# Altium footprint library MCP100T-300ITT.PcbLib: 3 footprints
Each footprint in its own frame and in the unit in brackets; x right, y up, seen from the top. Pads: shape width x height; smd on the part's side, far side on the other; paste and mask are expansions set on the pad; w line width, h text height; cw(c..) or ccw(c..) is an arc to the next point about the centre after c.
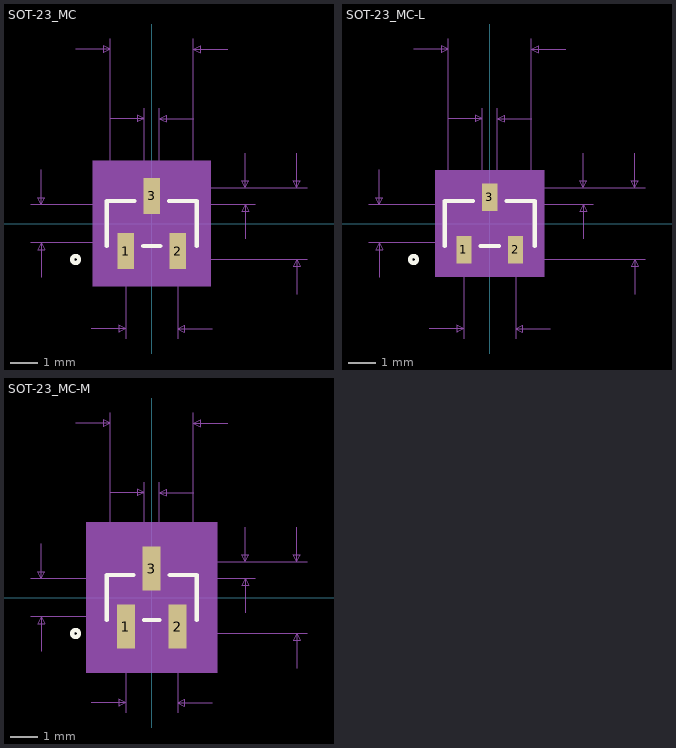
[diagram p0: the footprints below, top view; thin cyan lines are the x and y axes]

## SOT-23_MC [mil]
pads (3):
  rect 24x52 smd paste+0 mask+0: 1(-37.4,-39.97) 2(37.4,-39.97) 3(0,39.97)
Top Overlay:
  circle w6: c-110.04,-51.97 r5
  lines w6: -65.04,-32.56 -65.04,32.56 -25.1,32.56 ; -12.3,-32.56 12.3,-32.56 ; 25.1,32.56 65.04,32.56 65.04,-32.56
Mechanical 5:
  region: -85.04,90.97 85.04,90.97 85.04,-90.97 -85.04,-90.97
Mechanical 7:
  lines w1: -175.04,-27.56 0,-27.56 ; -175.04,27.56 0,27.56 ; -160.04,-77.56 -160.04,-27.56 ; -160.04,77.56 -160.04,27.56 ; -110.04,251.97 -60.04,251.97 ; -87.4,-151.97 -37.4,-151.97 ; -61,151.97 -11,151.97 ; -60.04,27.56 -60.04,266.97 ; -37.4,-166.97 -37.4,-51.97 ; -11,51.97 -11,166.97 ; 0,-51.97 225.04,-51.97 ; 0,27.97 150.04,27.97 ; 11,51.97 11,166.97 ; 37.4,-166.97 37.4,-51.97 ; 60.04,27.56 60.04,266.97 ; 61,151.97 11,151.97 ; 87.4,-151.97 37.4,-151.97 ; 110.04,251.97 60.04,251.97 ; 135.04,-22.03 135.04,27.97 ; 135.04,101.97 135.04,51.97 ; 150.04,51.97 0,51.97 225.04,51.97 ; 210.04,-101.97 210.04,-51.97 ; 210.04,101.97 210.04,51.97 ; -160.04,-27.56 -165.04,-37.56 -155.04,-37.56 -160.04,-27.56 ; -160.04,27.56 -165.04,37.56 -155.04,37.56 -160.04,27.56 ; -60.04,251.97 -70.04,256.97 -70.04,246.97 -60.04,251.97 ; -37.4,-151.97 -47.4,-146.97 -47.4,-156.97 -37.4,-151.97 ; -11,151.97 -21,156.97 -21,146.97 -11,151.97 ; 11,151.97 21,156.97 21,146.97 11,151.97 ; 37.4,-151.97 47.4,-146.97 47.4,-156.97 37.4,-151.97 ; 60.04,251.97 70.04,256.97 70.04,246.97 60.04,251.97 ; 135.04,27.97 130.04,17.97 140.04,17.97 135.04,27.97 ; 135.04,51.97 130.04,61.97 140.04,61.97 135.04,51.97 ; 210.04,-51.97 205.04,-61.97 215.04,-61.97 210.04,-51.97 ; 210.04,51.97 205.04,61.97 215.04,61.97 210.04,51.97
  text "Top Padstyle: RX24Y52D0T" at -300,-315.97 h50
  text "Bottom Padstyle: RX24Y52D0T" at -337.5,-390.97 h50
  text "Alt 1 Padstyle: OX60Y90D30P" at -337.5,-465.97 h50
  text "Alt 2 Padstyle: OX90Y60D30P" at -337.5,-540.97 h50
  text "0.104in/2.64mm" at 230.04,-12.5 h25
  text "0.024in/0.61mm" at 155.04,27.47 h25
  text "0.075in/1.9mm" at -81.25,-196.97 h25
  text "0.022in/0.559mm" at -93.75,171.97 h25
  text "0.12in/3.05mm" at -81.25,271.97 h25
  text "0.055in/1.4mm" at -342.54,-12.5 h25
Mechanical 13:
  circle w0: c-50.04,-17.56 r5
  lines w1: -60.04,-27.56 60.04,-27.56 60.04,27.56 -60.04,27.56 -60.04,-27.56 ; -48.4,-51.97 -48.4,-27.56 -26.4,-27.56 -26.4,-51.97 -48.4,-51.97 ; -11,27.56 11,27.56 11,51.97 -11,51.97 -11,27.56 ; 26.4,-51.97 26.4,-27.56 48.4,-27.56 48.4,-51.97 26.4,-51.97
Mechanical 15:
  region: -70.04,-37.56 -70.04,37.56 -22,37.56 -22,75.97 22,75.97 22,37.56 70.04,37.56 70.04,-37.56 59.4,-37.56 59.4,-75.97 -59.4,-75.97 -59.4,-37.56
  region: 60.04,-27.56 -60.04,-27.56 -60.04,27.56 60.04,27.56
  lines w6: -70.04,-37.56 -70.04,37.56 -22,37.56 -22,75.97 22,75.97 22,37.56 70.04,37.56 70.04,-37.56 59.4,-37.56 59.4,-75.97 -59.4,-75.97 -59.4,-37.56 -70.04,-37.56
3D body: height 10, standoff 0, extent 0,0 10,10

## SOT-23_MC-L [mil]
pads (3):
  rect 22x40 smd paste+0 mask+0: 1(-37.4,-37.97) 2(37.4,-37.97) 3(0,37.97)
Top Overlay:
  circle w6: c-110.04,-51.97 r5
  lines w6: -65.04,-32.56 -65.04,32.56 -24.1,32.56 ; -13.3,-32.56 13.3,-32.56 ; 24.1,32.56 65.04,32.56 65.04,-32.56
Mechanical 5:
  region: -79.04,76.97 79.04,76.97 79.04,-76.97 -79.04,-76.97
Mechanical 7:
  lines w1: -175.04,-27.56 0,-27.56 ; -175.04,27.56 0,27.56 ; -160.04,-77.56 -160.04,-27.56 ; -160.04,77.56 -160.04,27.56 ; -110.04,251.97 -60.04,251.97 ; -87.4,-151.97 -37.4,-151.97 ; -61,151.97 -11,151.97 ; -60.04,27.56 -60.04,266.97 ; -37.4,-166.97 -37.4,-51.97 ; -11,51.97 -11,166.97 ; 0,-51.97 225.04,-51.97 ; 0,27.97 150.04,27.97 ; 11,51.97 11,166.97 ; 37.4,-166.97 37.4,-51.97 ; 60.04,27.56 60.04,266.97 ; 61,151.97 11,151.97 ; 87.4,-151.97 37.4,-151.97 ; 110.04,251.97 60.04,251.97 ; 135.04,-22.03 135.04,27.97 ; 135.04,101.97 135.04,51.97 ; 150.04,51.97 0,51.97 225.04,51.97 ; 210.04,-101.97 210.04,-51.97 ; 210.04,101.97 210.04,51.97 ; -160.04,-27.56 -165.04,-37.56 -155.04,-37.56 -160.04,-27.56 ; -160.04,27.56 -165.04,37.56 -155.04,37.56 -160.04,27.56 ; -60.04,251.97 -70.04,256.97 -70.04,246.97 -60.04,251.97 ; -37.4,-151.97 -47.4,-146.97 -47.4,-156.97 -37.4,-151.97 ; -11,151.97 -21,156.97 -21,146.97 -11,151.97 ; 11,151.97 21,156.97 21,146.97 11,151.97 ; 37.4,-151.97 47.4,-146.97 47.4,-156.97 37.4,-151.97 ; 60.04,251.97 70.04,256.97 70.04,246.97 60.04,251.97 ; 135.04,27.97 130.04,17.97 140.04,17.97 135.04,27.97 ; 135.04,51.97 130.04,61.97 140.04,61.97 135.04,51.97 ; 210.04,-51.97 205.04,-61.97 215.04,-61.97 210.04,-51.97 ; 210.04,51.97 205.04,61.97 215.04,61.97 210.04,51.97
  text "Top Padstyle: RX22Y40D0T" at -300,-307.97 h50
  text "Bottom Padstyle: RX22Y40D0T" at -337.5,-382.97 h50
  text "Alt 1 Padstyle: OX60Y90D30P" at -337.5,-457.97 h50
  text "Alt 2 Padstyle: OX90Y60D30P" at -337.5,-532.97 h50
  text "0.104in/2.64mm" at 230.04,-12.5 h25
  text "0.024in/0.61mm" at 155.04,27.47 h25
  text "0.075in/1.9mm" at -81.25,-196.97 h25
  text "0.022in/0.559mm" at -93.75,171.97 h25
  text "0.12in/3.05mm" at -81.25,271.97 h25
  text "0.055in/1.4mm" at -342.54,-12.5 h25
Mechanical 13:
  circle w0: c-50.04,-17.56 r5
  lines w1: -60.04,-27.56 60.04,-27.56 60.04,27.56 -60.04,27.56 -60.04,-27.56 ; -48.4,-51.97 -48.4,-27.56 -26.4,-27.56 -26.4,-51.97 -48.4,-51.97 ; -11,27.56 11,27.56 11,51.97 -11,51.97 -11,27.56 ; 26.4,-51.97 26.4,-27.56 48.4,-27.56 48.4,-51.97 26.4,-51.97
Mechanical 15:
  region: -64.04,-31.56 -64.04,31.56 -15,31.56 -15,61.97 15,61.97 15,31.56 64.04,31.56 64.04,-31.56 52.4,-31.56 52.4,-61.97 -52.4,-61.97 -52.4,-31.56
  region: 60.04,-27.56 -60.04,-27.56 -60.04,27.56 60.04,27.56
  lines w6: -64.04,-31.56 -64.04,31.56 -15,31.56 -15,61.97 15,61.97 15,31.56 64.04,31.56 64.04,-31.56 52.4,-31.56 52.4,-61.97 -52.4,-61.97 -52.4,-31.56 -64.04,-31.56
3D body: height 10, standoff 0, extent 0,0 10,10

## SOT-23_MC-M [mil]
pads (3):
  rect 26x64 smd paste+0 mask+0: 1(-37.4,-41.97) 2(37.4,-41.97) 3(0,41.97)
Top Overlay:
  circle w6: c-110.04,-51.97 r5
  lines w6: -65.04,-32.56 -65.04,32.56 -26.1,32.56 ; -11.3,-32.56 11.3,-32.56 ; 26.1,32.56 65.04,32.56 65.04,-32.56
Mechanical 5:
  region: -95.04,108.97 95.04,108.97 95.04,-108.97 -95.04,-108.97
Mechanical 7:
  lines w1: -175.04,-27.56 0,-27.56 ; -175.04,27.56 0,27.56 ; -160.04,-77.56 -160.04,-27.56 ; -160.04,77.56 -160.04,27.56 ; -110.04,251.97 -60.04,251.97 ; -87.4,-151.97 -37.4,-151.97 ; -61,151.97 -11,151.97 ; -60.04,27.56 -60.04,266.97 ; -37.4,-166.97 -37.4,-51.97 ; -11,51.97 -11,166.97 ; 0,-51.97 225.04,-51.97 ; 0,27.97 150.04,27.97 ; 11,51.97 11,166.97 ; 37.4,-166.97 37.4,-51.97 ; 60.04,27.56 60.04,266.97 ; 61,151.97 11,151.97 ; 87.4,-151.97 37.4,-151.97 ; 110.04,251.97 60.04,251.97 ; 135.04,-22.03 135.04,27.97 ; 135.04,101.97 135.04,51.97 ; 150.04,51.97 0,51.97 225.04,51.97 ; 210.04,-101.97 210.04,-51.97 ; 210.04,101.97 210.04,51.97 ; -160.04,-27.56 -165.04,-37.56 -155.04,-37.56 -160.04,-27.56 ; -160.04,27.56 -165.04,37.56 -155.04,37.56 -160.04,27.56 ; -60.04,251.97 -70.04,256.97 -70.04,246.97 -60.04,251.97 ; -37.4,-151.97 -47.4,-146.97 -47.4,-156.97 -37.4,-151.97 ; -11,151.97 -21,156.97 -21,146.97 -11,151.97 ; 11,151.97 21,156.97 21,146.97 11,151.97 ; 37.4,-151.97 47.4,-146.97 47.4,-156.97 37.4,-151.97 ; 60.04,251.97 70.04,256.97 70.04,246.97 60.04,251.97 ; 135.04,27.97 130.04,17.97 140.04,17.97 135.04,27.97 ; 135.04,51.97 130.04,61.97 140.04,61.97 135.04,51.97 ; 210.04,-51.97 205.04,-61.97 215.04,-61.97 210.04,-51.97 ; 210.04,51.97 205.04,61.97 215.04,61.97 210.04,51.97
  text "Top Padstyle: RX26Y64D0T" at -300,-323.97 h50
  text "Bottom Padstyle: RX26Y64D0T" at -337.5,-398.97 h50
  text "Alt 1 Padstyle: OX60Y90D30P" at -337.5,-473.97 h50
  text "Alt 2 Padstyle: OX90Y60D30P" at -337.5,-548.97 h50
  text "0.104in/2.64mm" at 230.04,-12.5 h25
  text "0.024in/0.61mm" at 155.04,27.47 h25
  text "0.075in/1.9mm" at -81.25,-196.97 h25
  text "0.022in/0.559mm" at -93.75,171.97 h25
  text "0.12in/3.05mm" at -81.25,271.97 h25
  text "0.055in/1.4mm" at -342.54,-12.5 h25
Mechanical 13:
  circle w0: c-50.04,-17.56 r5
  lines w1: -60.04,-27.56 60.04,-27.56 60.04,27.56 -60.04,27.56 -60.04,-27.56 ; -48.4,-51.97 -48.4,-27.56 -26.4,-27.56 -26.4,-51.97 -48.4,-51.97 ; -11,27.56 11,27.56 11,51.97 -11,51.97 -11,27.56 ; 26.4,-51.97 26.4,-27.56 48.4,-27.56 48.4,-51.97 26.4,-51.97
Mechanical 15:
  region: -80.04,-47.56 -80.04,47.56 -33,47.56 -33,93.97 33,93.97 33,47.56 80.04,47.56 80.04,-47.56 70.4,-47.56 70.4,-93.97 -70.4,-93.97 -70.4,-47.56
  region: 60.04,-27.56 -60.04,-27.56 -60.04,27.56 60.04,27.56
  lines w6: -80.04,-47.56 -80.04,47.56 -33,47.56 -33,93.97 33,93.97 33,47.56 80.04,47.56 80.04,-47.56 70.4,-47.56 70.4,-93.97 -70.4,-93.97 -70.4,-47.56 -80.04,-47.56
3D body: height 10, standoff 0, extent 0,0 10,10